# Altium schematic symbol library TPS54627.SchLib: 1 symbol
Pins are listed as number, name and electrical type; pins without a type are passive.

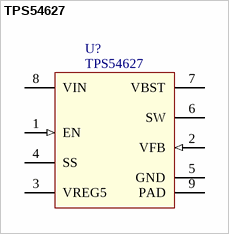
[diagram p0: symbol TPS54627]

## TPS54627
designator U?
TPS54627 4.5-V to 18-V Input, 6-A Synchronous Step-Down Converter; value: TPS54627
footprint SO-8-PAD (SOIC, 8-Leads, Body 4,90x3,90mm, Pitch 1,27mm, Thermal Pad 3,10x2,40mm, IPC Medium Density)
pins: 1 EN (in), 2 VFB (in), 3 VREG5 (power), 4 SS, 5 GND, 6 SW, 7 VBST, 8 VIN (power), 9 PAD